# EAGLE library part SKSGACE010 (library BluePillF4)
Surface Mount Type TACT Switch
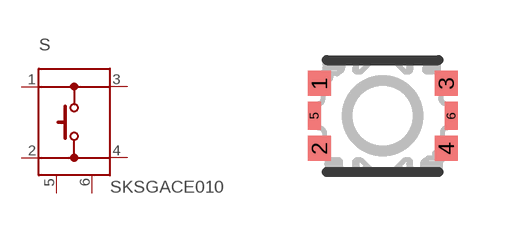
[diagram p3: symbol with the pads of SKSGACE010; footprint SKSGACE010]

Designator prefix S

## SKSGACE010 (HEIGHT: 1.4mm; PARTNO: SKSGACE010)  [SKSGACE010]
1  A  pas
2  B  pas
3  A  pas
4  B  pas
5  5  pas
6  6  pas

## Footprint SKSGACE010 (pad centres in mm)
Surface Mount Type TACT Switch
smd 0.575 x 0.625: 1 -1.587,0.812; 2 -1.587,-0.812; 3 1.587,0.812; 4 1.587,-0.812
smd 0.325 x 0.699: 5 -1.712,0; 6 1.712,0